# Altium footprint library g.PcbLib: 5 footprints
Each footprint in its own frame and in the unit in brackets; x right, y up, seen from the top. Pads: shape width x height; smd on the part's side, far side on the other; paste and mask are expansions set on the pad; w line width, h text height; cw(c..) or ccw(c..) is an arc to the next point about the centre after c.
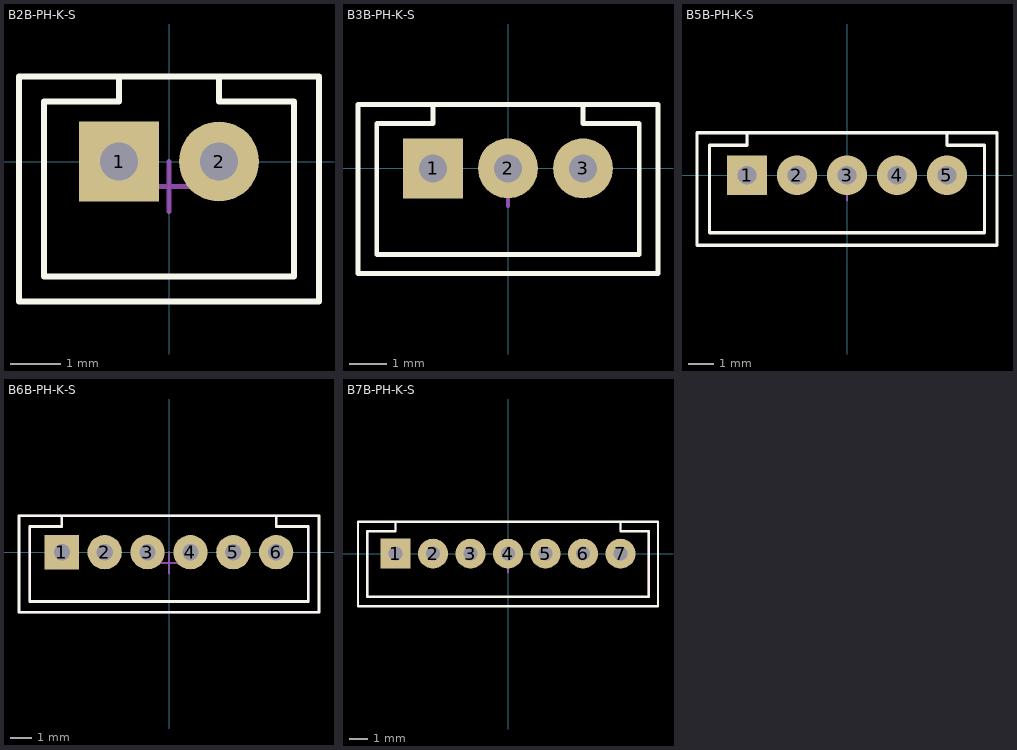
[diagram p0: the footprints below, top view; thin cyan lines are the x and y axes]

## B2B-PH-K-S [mm] "PH Connector 2mm pitch, top entry"
height 6
pads (2):
  rect 1.6x1.6 hole 0.75: 1(-1,0)
  round 1.6 hole 0.75: 2(1,0)
Top Overlay:
  lines w0.127: -1,1.7 -1,1.2 -2.5,1.2 -2.5,-2.3 -0.95,-2.3 1.55,-2.3 2.5,-2.3 2.5,1.2 1,1.2 1,1.7 ; -3,-2.8 -3,1.7 3,1.7 3,-2.8 -3,-2.8
Mechanical 13:
  lines w0.1: -1,1.7 -3,1.7 -3,-2.8 3,-2.8 3,1.7 1,1.7 ; -1,1.7 -1,1.2 -2.5,1.2 -2.5,-2.3 2.5,-2.3 2.5,1.2 1,1.2 1,1.7 ; -1,1.7 1,1.7
Mechanical 15:
  lines w0.05: -3,-2.8 -3,1.7 3,1.7 3,-2.8 -3,-2.8
  lines w0.1: -0.5,-0.5 0.5,-0.5 ; 0,-1 0,0
3D body: height 6, standoff -3.4, extent -2.95,-2.8 2.95,1.7

## B3B-PH-K-S [mm]
pads (3):
  rect 1.6x1.6 hole 0.75: 1(-2,0)
  round 1.6 hole 0.75: 2(0,0) 3(2,0)
Top Overlay:
  lines w0.127: -2,1.7 -2,1.2 -3.5,1.2 -3.5,-2.3 -1.95,-2.3 0.55,-2.3 3.5,-2.3 3.5,1.2 2,1.2 2,1.7 ; -4,-2.8 -4,1.7 4,1.7 4,-2.8 -4,-2.8
Mechanical 13:
  lines w0.1: 2,1.7 2,1.2 3.5,1.2 3.5,-2.3 -3.5,-2.3 -3.5,1.2 -2,1.2 -2,1.7 ; -2,1.7 -4,1.7 -4,-2.8 4,-2.8 4,1.7 0,1.7 -2,1.7
Mechanical 15:
  lines w0.05: -4,-2.8 -4,1.7 4,1.7 4,-2.8 -4,-2.8
  lines w0.1: -0.5,-0.5 0.5,-0.5 ; 0,-1 0,0
3D body: height 6, standoff -3.4, extent -3.963,-2.758 3.937,1.742

## B5B-PH-K-S [mm] "PH Connector 2mm pitch, top entry"
height 6
pads (5):
  rect 1.6x1.6 hole 0.75: 1(-4,0)
  round 1.6 hole 0.75: 2(-2,0) 3(0,0) 4(2,0) 5(4,0)
Top Overlay:
  lines w0.127: -4,1.7 -4,1.2 -5.5,1.2 -5.5,-2.3 2.05,-2.3 4.55,-2.3 5.5,-2.3 5.5,1.2 4,1.2 4,1.7 ; -6,-2.8 6,-2.8 6,1.7 -6,1.7 -6,-2.8
Mechanical 13:
  lines w0.1: -4,1.7 -4,1.2 -5.4,1.2 -5.5,1.2 -5.5,-2.3 5.5,-2.3 5.5,1.2 4,1.2 4,1.7 ; 4,1.7 -6,1.7 -6,-2.8 6,-2.8 6,1.7 4,1.7
Mechanical 15:
  lines w0.05: -6,-2.8 6,-2.8 6,1.7 -6,1.7 -6,-2.8
  lines w0.1: -0.5,-0.5 0.5,-0.5 ; 0,-1 0,0
3D body: height 6, standoff -3.4, extent -5.95,-2.8 5.95,1.7

## B6B-PH-K-S [mm] "PH Connector 2mm pitch, top entry"
height 6
pads (6):
  rect 1.6x1.6 hole 0.75: 1(-5,0)
  round 1.6 hole 0.75: 2(-3,0) 3(-1,0) 4(1,0) 5(3,0) 6(5,0)
Top Overlay:
  lines w0.127: -5,1.7 -5,1.2 -6.5,1.2 -6.5,-2.3 3.05,-2.3 5.55,-2.3 6.5,-2.3 6.5,1.2 5,1.2 5,1.7 ; -7,-2.8 7,-2.8 7,1.7 -7,1.7 -7,-2.8
Mechanical 13:
  lines w0.1: -5,1.7 -5,1.2 -6.5,1.2 -6.5,-2.3 6.5,-2.3 6.5,1.2 5,1.2 5,1.7 ; 5,1.7 7,1.7 7,-2.8 -7,-2.8 -7,1.7 5,1.7
Mechanical 15:
  lines w0.05: -7,-2.8 7,-2.8 7,1.7 -7,1.7 -7,-2.8
  lines w0.1: -0.5,-0.5 0.5,-0.5 ; 0,-1 0,0
3D body: height 6, standoff -3.4, extent -6.95,-2.8 6.95,1.7

## B7B-PH-K-S [mm] "PH Connector 2mm pitch, top entry"
height 6
pads (7):
  rect 1.6x1.6 hole 0.75: 1(-6,0)
  round 1.6 hole 0.75: 2(-4,0) 3(-2,0) 4(0,0) 5(2,0) 6(4,0) 7(6,0)
Top Overlay:
  lines w0.127: -6,1.7 -6,1.2 -7.5,1.2 -7.5,-2.3 4.05,-2.3 6.55,-2.3 7.5,-2.3 7.5,1.2 6,1.2 6,1.7 ; -8,-2.8 8,-2.8 8,1.7 -8,1.7 -8,-2.8
Mechanical 13:
  lines w0.1: -6,1.7 -6,1.2 -7.5,1.2 -7.5,-2.3 7.5,-2.3 7.5,1.2 6,1.2 6,1.7 ; 6,1.7 8,1.7 8,-2.8 -8,-2.8 -8,1.7 6,1.7
Mechanical 15:
  lines w0.05: -8,-2.8 -8,1.7 8,1.7 8,-2.8 -8,-2.8
  lines w0.1: -0.5,-0.5 0.5,-0.5 ; 0,-1 0,0
3D body: height 6, standoff -3.4, extent -7.9,-2.75 8,1.75